# EAGLE library part MSGEQ7 (library Coert-Vonk)
7-band graphic equalizer
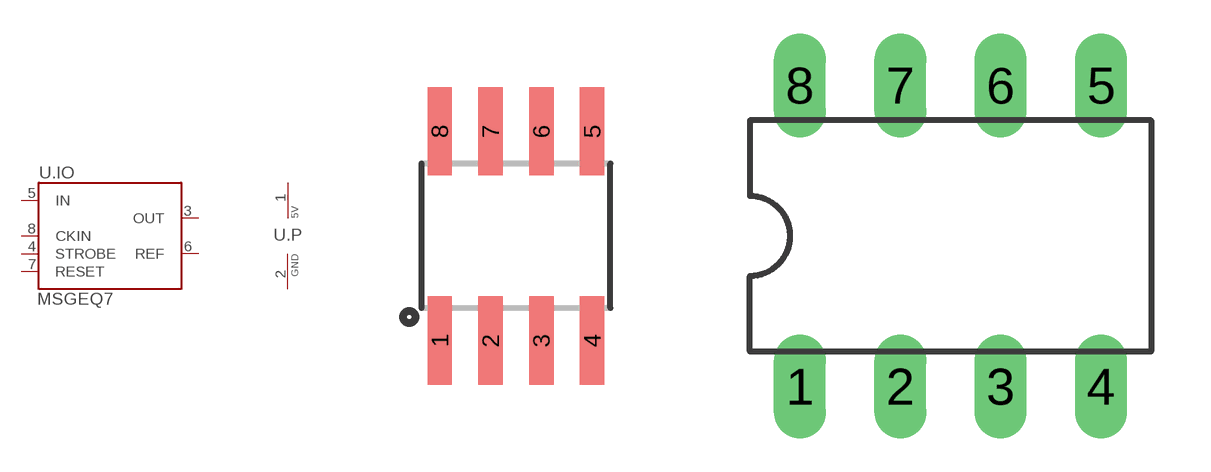
[diagram p3: symbol with the pads of SOIC8; footprints SOIC8, DIL-08]

Designator prefix U; gates .IO=MSGEQ7 .P=5V-GND

## MSGEQ7SOIC (PROD_ID: IC-10141)  [SOIC8]
1  .P:5V  pas
2  .P:GND  sup
3  .IO:OUT  out
4  .IO:STROBE  in
5  .IO:IN  in
6  .IO:REF
7  .IO:RESET  in
8  .IO:CKIN  in

## MSGEQ7DIL  [DIL-08]
Pads as for SOIC8

## Footprint SOIC8 (pad centres in mm)
smd 0.61 x 2.21: 1 -1.905,-2.616; 2 -0.635,-2.616; 3 0.635,-2.616; 4 1.905,-2.616; 5 1.905,2.616; 6 0.635,2.616; 7 -0.635,2.616; 8 -1.905,2.616

## Footprint DIL-08 (pad centres in mm)
Dual In Line Package
drill 0.813 long: 1 -3.81,-3.81; 2 -1.27,-3.81; 3 1.27,-3.81; 4 3.81,-3.81; 5 3.81,3.81; 6 1.27,3.81; 7 -1.27,3.81; 8 -3.81,3.81